# EAGLE library part 53048-1410 (library molex-pico)
HEADER
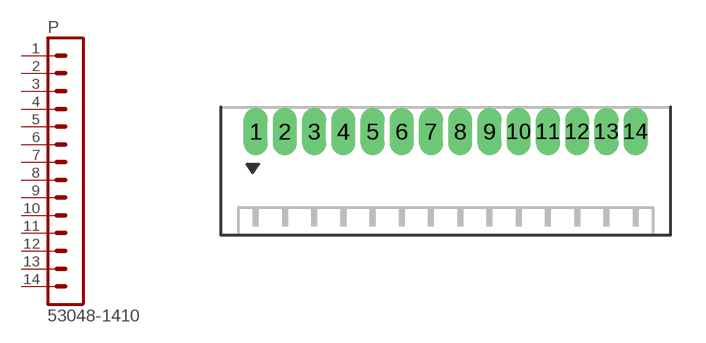
[diagram p18: symbol with the pads of 53048-1410; footprint 53048-1410]

Designator prefix P

## 53048-1410  [53048-1410]
1  1  pas
2  2  pas
3  3  pas
4  4  pas
5  5  pas
6  6  pas
7  7  pas
8  8  pas
9  9  pas
10  10  pas
11  11  pas
12  12  pas
13  13  pas
14  14  pas

## Footprint 53048-1410 (pad centres in mm)
HEADER
drill 0.508 long: 1 -8.125,0; 2 -6.875,0; 3 -5.625,0; 4 -4.375,0; 5 -3.125,0; 6 -1.875,0; 7 -0.625,0; 8 0.625,0; 9 1.875,0; 10 3.125,0; 11 4.375,0; 12 5.625,0; 13 6.875,0; 14 8.125,0